# Altium footprint library Pcb库.PcbLib: 37 footprints (part 1 of 3)
Each footprint in its own frame and in the unit in brackets; x right, y up, seen from the top. Pads: shape width x height; smd on the part's side, far side on the other; paste and mask are expansions set on the pad; w line width, h text height; cw(c..) or ccw(c..) is an arc to the next point about the centre after c.
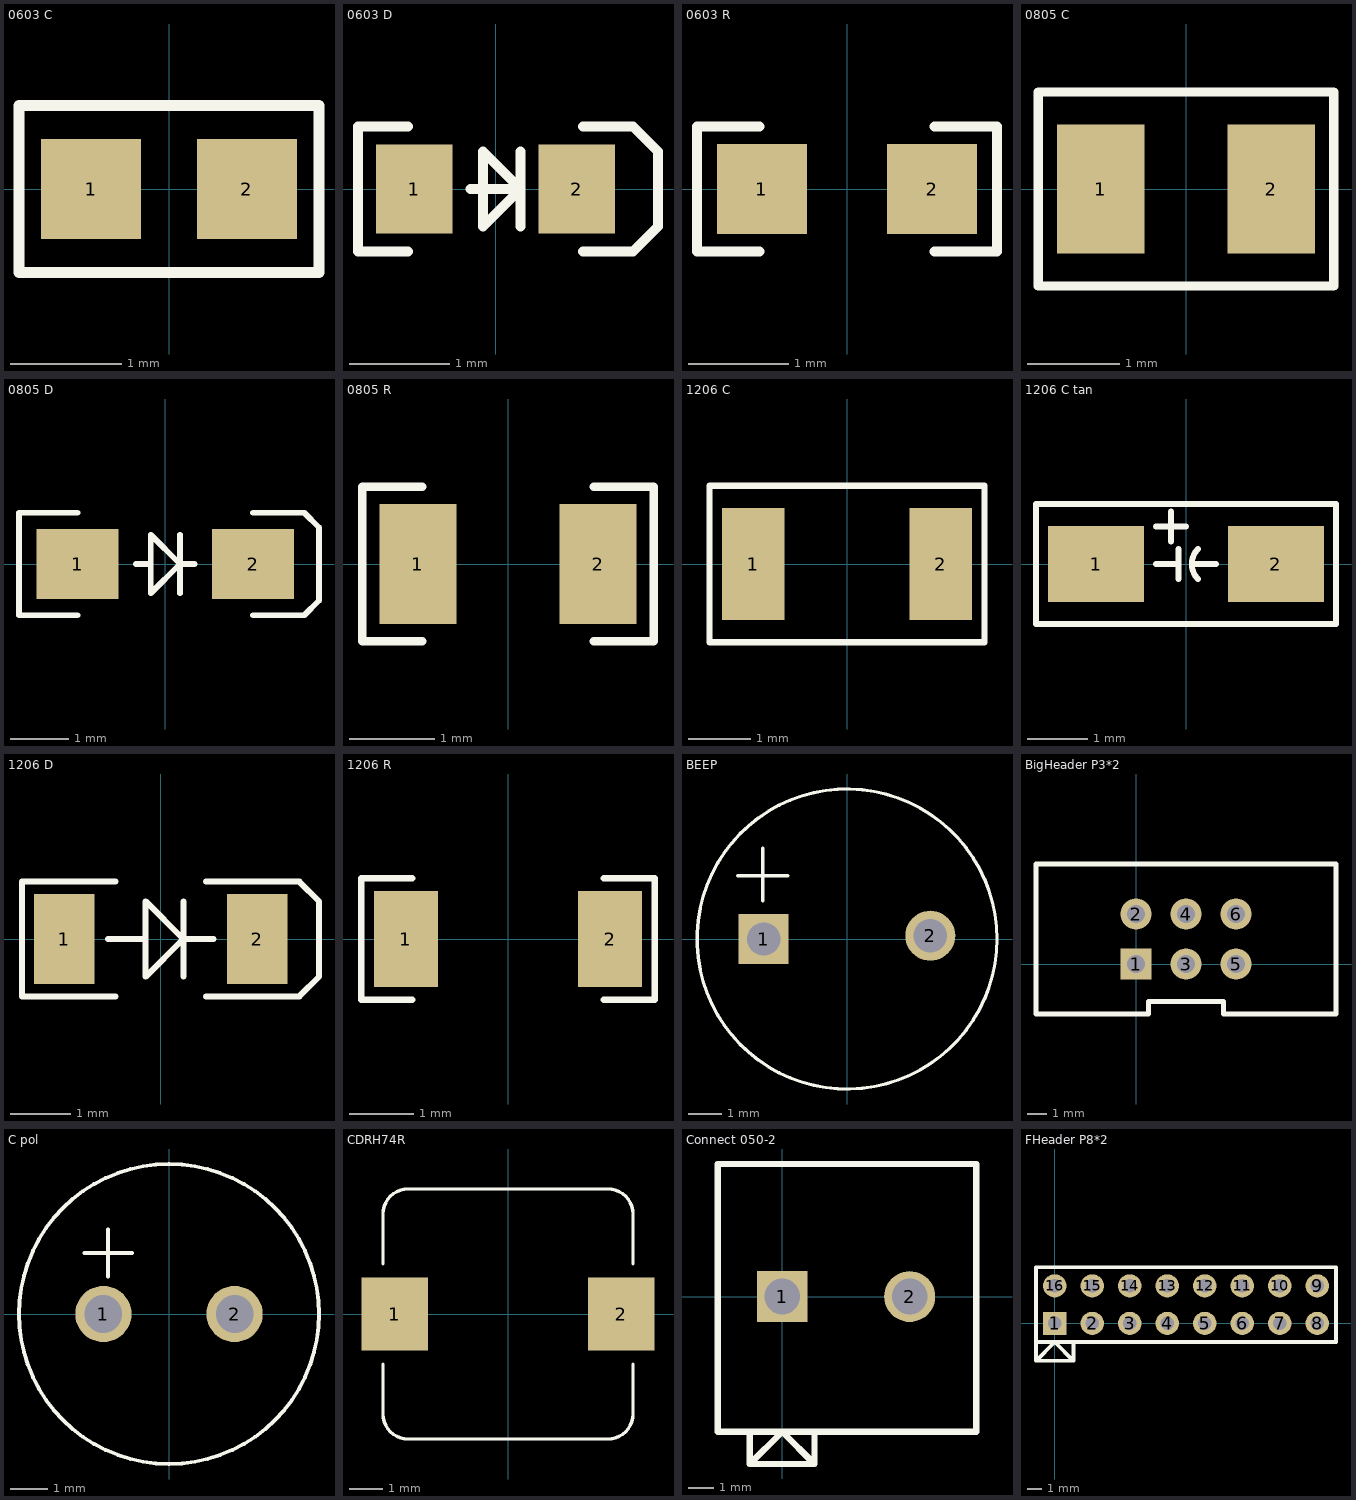
[diagram p0: the footprints below, top view; thin cyan lines are the x and y axes]

## 0603 C [mm]
pads (2):
  rect 0.9x0.9 smd: 1(-0.7,0) 2(0.7,0)
Top Overlay:
  lines w0.1: -1.35,-0.75 -1.35,0.75 1.35,0.75 1.35,-0.75 -1.35,-0.75
3D body: height 0.8, standoff 0, extent -0.5,-0.4 0.5,0.4
3D body: height 0.8, standoff 0, extent -0.8,-0.4 -0.5,0.4
3D body: height 0.8, standoff 0, extent 0.5,-0.4 0.8,0.4

## 0603 D [mil]
pads (2):
  rect 30x35 smd: 1(-32,0) 2(32,0)
Top Overlay:
  lines w3.94: -34.45,-24.61 -54.13,-24.61 -54.13,24.61 -34.45,24.61 ; -9.84,0 9.84,0 ; 9.84,-14.76 9.84,14.76 ; 34.45,-24.61 54.13,-24.61 63.98,-14.76 63.98,14.76 54.13,24.61 34.45,24.61 ; 9.84,0 -4.92,14.76 -4.92,-14.76 9.84,0

## 0603 R [mm]
pads (2):
  rect 0.9x0.9 smd: 1(-0.85,0) 2(0.85,0)
Top Overlay:
  lines w0.1: -0.875,-0.625 -1.5,-0.625 -1.5,0.625 -0.875,0.625 ; 0.875,-0.625 1.5,-0.625 1.5,0.625 0.875,0.625
3D body: height 0.45, standoff 0, extent -0.55,-0.4 0.55,0.4
3D body: height 0.45, standoff 0, extent -0.8,-0.4 -0.55,0.4
3D body: height 0.45, standoff 0, extent 0.55,-0.4 0.8,0.4

## 0805 C [mm]
pads (2):
  rect 0.95x1.4 smd: 1(-0.925,0) 2(0.925,0)
Top Overlay:
  lines w0.1: -1.6,-1.05 -1.6,1.05 1.6,1.05 1.6,-1.05 -1.6,-1.05
3D body: height 0.6, standoff 0, extent 0.75,-0.625 1,0.625
3D body: height 0.6, standoff 0, extent -1,-0.625 -0.75,0.625
3D body: height 0.6, standoff 0, extent -0.75,-0.625 0.75,0.625

## 0805 D [mm]
pads (2):
  rect 1.4x1.2 smd: 1(-1.5,0) 2(1.5,0)
Top Overlay:
  lines w0.1: -1.5,-0.875 -2.5,-0.875 -2.5,0.875 -1.5,0.875 ; -0.5,0 -0.25,0 ; 0.25,-0.5 0.25,0.5 ; 0.5,0 0.25,0 ; 1.5,-0.875 2.375,-0.875 2.625,-0.625 2.625,0.625 2.375,0.875 1.5,0.875 ; 0.25,0 -0.25,-0.5 -0.25,0.5 0.25,0

## 0805 R [mm]
pads (2):
  rect 0.9x1.4 smd: 1(-1.05,0) 2(1.05,0)
Top Overlay:
  lines w0.1: -1,-0.9 -1.7,-0.9 -1.7,0.9 -1,0.9 ; 1,-0.9 1.7,-0.9 1.7,0.9 1,0.9
3D body: height 0.5, standoff 0, extent -0.65,-0.625 0.65,0.625
3D body: height 0.5, standoff 0, extent -1,-0.625 -0.65,0.625
3D body: height 0.5, standoff 0, extent 0.65,-0.625 1,0.625

## 1206 C [mm]
pads (2):
  rect 1x1.8 smd: 1(-1.5,0) 2(1.5,0)
Top Overlay:
  lines w0.1: -2.2,-1.25 2.2,-1.25 2.2,1.25 -2.2,1.25 -2.2,-1.25
3D body: height 0.8, standoff 0, extent 1.2,-0.8 1.6,0.8
3D body: height 0.8, standoff 0, extent -1.6,-0.8 -1.2,0.8
3D body: height 0.8, standoff 0, extent -1.2,-0.8 1.2,0.8

## 1206 C tan [mm]
pads (2):
  rect 1.6x1.27 smd: 1(-1.5,0) 2(1.5,0)
Top Overlay:
  lines w0.1: -0.5,0 -0.125,0 ; -0.5,0.625 0,0.625 ; -0.25,0.375 -0.25,0.875 ; -0.125,-0.25 -0.125,0.25 ; 0.125,0 0.5,0 ; 0.2,-0.25 cw(c0.45,0) 0.2,0.25 ; -2.5,-1 -2.5,1 2.5,1 2.5,-1 -2.5,-1
3D body: height 1.6, standoff 0.1, extent -0.875,-0.8 1.5,0.8
3D body: height 1.6, standoff 0.1, extent -1.5,-0.8 -0.875,0.8
3D body: height 0.8, standoff 0, extent -1.6,-0.6 -0.8,0.6
3D body: height 0.8, standoff 0, extent 0.8,-0.6 1.6,0.6

## 1206 D [mm]
pads (2):
  rect 1x1.5 smd: 1(-1.6,0) 2(1.6,0)
Top Overlay:
  lines w0.1: -0.875,0 -0.25,0 ; -0.75,-0.95 -2.3,-0.95 -2.3,0.95 -0.75,0.95 ; 0.375,-0.625 0.375,0.625 ; 0.75,-0.95 2.3,-0.95 2.625,-0.625 2.625,0.625 2.3,0.95 0.75,0.95 ; 0.875,0 0.375,0 ; 0.375,0 -0.25,-0.625 -0.25,0.625 0.375,0

## 1206 R [mm]
pads (2):
  rect 1x1.5 smd: 1(-1.6,0) 2(1.6,0)
Top Overlay:
  lines w0.1: -1.5,-0.95 -2.3,-0.95 -2.3,0.95 -1.5,0.95 ; 1.5,-0.95 2.3,-0.95 2.3,0.95 1.5,0.95
3D body: height 0.55, standoff 0, extent -1.1,-0.8 1.1,0.8
3D body: height 0.55, standoff 0, extent -1.55,-0.8 -1.1,0.8
3D body: height 0.55, standoff 0, extent 1.1,-0.8 1.55,0.8

## BEEP [mm]
pads (2):
  rect 1.5x1.5 hole 1: 1(-2.5,0)
  round 1.5 hole 1: 2(2.5,0.1)
Top Overlay:
  circle w0.1: c0,0 r4.5
  lines w0.1: -3.275,1.9 -1.775,1.9 ; -2.525,1.15 -2.525,2.725
3D body: height 6.02, standoff 5.9, extent -1,-1 1,1
3D body: height 6, standoff 0, extent -4.5,-4.499 4.5,4.499

## BigHeader P3*2 [mil]
pads (6):
  rect 62x62 hole 35.5: 1(0,0)
  round 62 hole 35.5: 2(0,100) 3(100,0) 4(100,100) 5(200,0) 6(200,100)
Top Overlay:
  lines w10: -200,-100 -200,200 400,200 400,-100 175,-100 175,-75 25,-75 25,-100 -200,-100
3D body: height 350, standoff -100, extent -10,-10 10,10
3D body: height 350, standoff -100, extent 90,-10 110,10
3D body: height 350, standoff -100, extent 190,90 210,110
3D body: height 350, standoff -100, extent 90,90 110,110
3D body: height 350, standoff -100, extent -10,90 10,110
3D body: height 350, standoff -100, extent 190,-10 210,10
3D body: height 354, standoff 0, extent 175,-102.5 400,-87.5
3D body: height 354, standoff 0, extent -200,-102.5 25,-87.5
3D body: height 354, standoff 0, extent -200,187.5 400,202.5
3D body: height 354, standoff 0, extent -200,-100 -185,200
3D body: height 354, standoff 0, extent 385,-100 400,200
3D body: height 78, standoff 0, extent -200,-100 400,200

## C pol [mm]
pads (2):
  round 1.5 hole 1: 1(-1.75,0) 2(1.75,0)
Top Overlay:
  circle w0.1: c0,0 r4
  lines w0.1: -2.262,1.625 -0.988,1.625 ; -1.625,1 -1.625,2.25
3D body: height 13.2, standoff 10, extent -2.5,-2.499 2.5,2.499
3D body: height 13.1, standoff 0.1, extent -4,-3.998 4,3.999
3D body: height 7.46, standoff -2.54, extent -2.048,-0.299 -1.45,0.3
3D body: height 7.46, standoff -2.54, extent 1.452,-0.299 2.05,0.3

## CDRH74R [mm]
pads (2):
  rect 2x2.2 smd: 1(-3.4,0) 2(3.4,0)
Top Overlay:
  lines w0.1: -3.75,-3.05 -3.75,-1.5 ; -3.75,-3 ccw(c-3,-3) -3,-3.75 ; -3.75,1.5 -3.75,3 cw(c-3,3) -3,3.75 3,3.75 cw(c3,3) 3.75,3 3.75,1.5 ; -3.05,-3.75 3,-3.75 ccw(c3,-3) 3.75,-3 3.75,-1.5
3D body: height 4, standoff 0, extent -3.75,2.251 -2.25,3.75
3D body: height 4, standoff 0, extent -3.75,-3.75 3.75,3.75
3D body: height 4, standoff 0, extent -3.75,-3.75 -2.251,-2.25
3D body: height 4, standoff 0, extent 2.25,-3.749 3.75,-2.251
3D body: height 4, standoff 0, extent 2.251,2.25 3.749,3.75

## Connect 050-2 [mm]
pads (2):
  rect 2x2 hole 1.4: 1(0,0)
  round 2 hole 1.4: 2(5,0)
Top Overlay:
  lines w0.254: -1.275,-5.3 -1.275,-6.57 ; 1.265,-5.3 1.265,-6.57 ; 7.62,-5.3 -2.54,-5.3 -2.54,5.2 7.62,5.2 7.62,-5.2 ; -1.275,-6.57 -0.005,-5.3 1.265,-6.57 ; -1.275,-6.57 1.265,-6.57
3D body "050-2.STEP": height 11, standoff -2, extent -2.42,-2.5 7.58,5.5

## FHeader P8*2 [mil]
pads (16):
  rect 62x62 hole 35.5: 1(0,0)
  round 62 hole 35.5: 2(100,0) 3(200,0) 4(300,0) 5(400,0) 6(500,0) 7(600,0) 8(700,0) 9(700,100) 10(600,100) 11(500,100) 12(400,100) 13(300,100) 14(200,100) 15(100,100) 16(0,100)
Top Overlay:
  lines w10: 50,-50 50,-100 ; -50,-100 -50,-50 ; -50,-100 50,-100 ; -50,-100 0,-50 50,-100 ; -50,-50 -50,150 750,150 750,-50 -50,-50
3D body: height 350, standoff 0, extent -50,50 50,150
3D body: height 300, standoff 0, extent -35,65 35,135
3D body: height 200, standoff -100, extent -10,90 10,110
3D body: height 350, standoff 0, extent 50,50 150,150
3D body: height 300, standoff 0, extent 65,65 135,135
3D body: height 200, standoff -100, extent 90,90 110,110
3D body: height 350, standoff 0, extent 150,50 250,150
3D body: height 300, standoff 0, extent 165,65 235,135
3D body: height 200, standoff -100, extent 190,90 210,110
3D body: height 350, standoff 0, extent 250,50 350,150
3D body: height 300, standoff 0, extent 265,65 335,135
3D body: height 200, standoff -100, extent 290,90 310,110
3D body: height 350, standoff 0, extent 350,50 450,150
3D body: height 300, standoff 0, extent 365,65 435,135
3D body: height 200, standoff -100, extent 390,90 410,110
3D body: height 350, standoff 0, extent 450,50 550,150
3D body: height 300, standoff 0, extent 465,65 535,135
3D body: height 200, standoff -100, extent 490,90 510,110
3D body: height 350, standoff 0, extent 550,50 650,150
3D body: height 300, standoff 0, extent 565,65 635,135
3D body: height 200, standoff -100, extent 590,90 610,110
3D body: height 350, standoff 0, extent 650,50 750,150
3D body: height 300, standoff 0, extent 665,65 735,135
3D body: height 200, standoff -100, extent 690,90 710,110
3D body: height 350, standoff 0, extent 650,-50 750,50
3D body: height 300, standoff 0, extent 665,-35 735,35
3D body: height 200, standoff -100, extent 690,-10 710,10
3D body: height 350, standoff 0, extent 550,-50 650,50
3D body: height 300, standoff 0, extent 565,-35 635,35
3D body: height 200, standoff -100, extent 590,-10 610,10
3D body: height 350, standoff 0, extent 450,-50 550,50
3D body: height 300, standoff 0, extent 465,-35 535,35
3D body: height 200, standoff -100, extent 490,-10 510,10
3D body: height 350, standoff 0, extent 350,-50 450,50
3D body: height 300, standoff 0, extent 365,-35 435,35
3D body: height 200, standoff -100, extent 390,-10 410,10
3D body: height 350, standoff 0, extent 250,-50 350,50
3D body: height 300, standoff 0, extent 265,-35 335,35
3D body: height 200, standoff -100, extent 290,-10 310,10
3D body: height 350, standoff 0, extent 150,-50 250,50
3D body: height 300, standoff 0, extent 165,-35 235,35
3D body: height 200, standoff -100, extent 190,-10 210,10
3D body: height 350, standoff 0, extent 50,-50 150,50
3D body: height 300, standoff 0, extent 65,-35 135,35
3D body: height 200, standoff -100, extent 90,-10 110,10
3D body: height 350, standoff 0, extent -50,-50 50,50
3D body: height 300, standoff 0, extent -35,-35 35,35
3D body: height 200, standoff -100, extent -10,-10 10,10